# Altium footprint library AZ1084CD-3P3TRG1.PcbLib: 3 footprints
Each footprint in its own frame and in the unit in brackets; x right, y up, seen from the top. Pads: shape width x height; smd on the part's side, far side on the other; paste and mask are expansions set on the pad; w line width, h text height; cw(c..) or ccw(c..) is an arc to the next point about the centre after c.
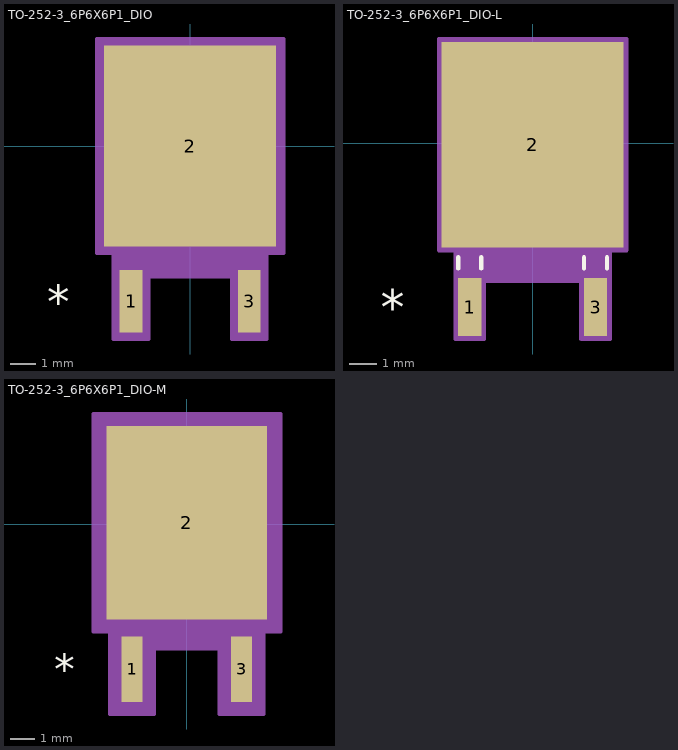
[diagram p0: the footprints below, top view; thin cyan lines are the x and y axes]

## TO-252-3_6P6X6P1_DIO [mil]
pads (3):
  rect 35x95 smd paste+0 mask+0: 1(-90,-236.5) 3(90,-236.5)
  rect 262x306 smd paste+0 mask+0: 2(0,0)
Top Overlay:
  text "*" at -217.5,-261.5 h50
Mechanical 13:
  lines w1: -16,-139 -16,-171 16,-171 16,-139 ; -130,-139 130,-139 130,139 -130,139 -130,-139 ; -106.5,-270 -106.5,-139 -73.5,-139 -73.5,-270 -106.5,-270 ; 73.5,-270 73.5,-139 106.5,-139 106.5,-270 73.5,-270
  text "*" at -102.5,-154 h50
Mechanical 15:
  region: -116.5,-163 -142,-163 -142,163 142,163 142,-163 116.5,-163 116.5,-294 63.5,-294 63.5,-199 -63.5,-199 -63.5,-294 -116.5,-294
  lines w6: -142,-163 -142,163 142,163 142,-163 116.5,-163 116.5,-294 63.5,-294 63.5,-199 -63.5,-199 -63.5,-294 -116.5,-294 -116.5,-163 -142,-163
3D body "TO-252-3_6P6X6P1_DIO.step": height 94.09, standoff -2.01, extent -130,-270 130,139.09

## TO-252-3_6P6X6P1_DIO-L [mil]
pads (3):
  rect 33x83 smd paste+0 mask+0: 1(-90,-234.5) 3(90,-234.5)
  rect 260x294 smd paste+0 mask+0: 2(0,-2)
Top Overlay:
  lines w6: -106.5,-179 -106.5,-163 ; -73.5,-179 -73.5,-163 ; 73.5,-179 73.5,-163 ; 106.5,-179 106.5,-163
  text "*" at -217.5,-259.5 h50
Mechanical 13:
  lines w1: -16,-139 -16,-171 16,-171 16,-139 ; -130,-139 130,-139 130,139 -130,139 -130,-139 ; -106.5,-270 -106.5,-139 -73.5,-139 -73.5,-270 -106.5,-270 ; 73.5,-270 73.5,-139 106.5,-139 106.5,-270 73.5,-270
  text "*" at -102.5,-154 h50
Mechanical 15:
  region: -110.5,-153 -134,-153 -134,149 134,149 134,-153 110.5,-153 110.5,-280 69.5,-280 69.5,-197 -69.5,-197 -69.5,-280 -110.5,-280
  lines w6: -134,-153 -134,149 134,149 134,-153 110.5,-153 110.5,-280 69.5,-280 69.5,-197 -69.5,-197 -69.5,-280 -110.5,-280 -110.5,-153 -134,-153
3D body "TO-252-3_6P6X6P1_DIO.step": height 94.09, standoff -2.01, extent -130,-270 130,139.09

## TO-252-3_6P6X6P1_DIO-M [mil]
pads (3):
  rect 35x107 smd paste+0 mask+0: 1(-90,-238.5) 3(90,-238.5)
  rect 264x318 smd paste+0 mask+0: 2(0,2)
Top Overlay:
  text "*" at -217.5,-263.5 h50
Mechanical 13:
  lines w1: -16,-139 -16,-171 16,-171 16,-139 ; -130,-139 130,-139 130,139 -130,139 -130,-139 ; -106.5,-270 -106.5,-139 -73.5,-139 -73.5,-270 -106.5,-270 ; 73.5,-270 73.5,-139 106.5,-139 106.5,-270 73.5,-270
  text "*" at -102.5,-154 h50
Mechanical 15:
  region: -126.5,-177 -154,-177 -154,181 154,181 154,-177 126.5,-177 126.5,-312 53.5,-312 53.5,-205 -53.5,-205 -53.5,-312 -126.5,-312
  lines w6: -154,-177 -154,181 154,181 154,-177 126.5,-177 126.5,-312 53.5,-312 53.5,-205 -53.5,-205 -53.5,-312 -126.5,-312 -126.5,-177 -154,-177
3D body "TO-252-3_6P6X6P1_DIO.step": height 94.09, standoff -2.01, extent -130,-270 130,139.09